# Altium footprint library ST7735_SPI_I2C.PcbLib: 1 footprints
Each footprint in its own frame and in the unit in brackets; x right, y up, seen from the top. Pads: shape width x height; smd on the part's side, far side on the other; paste and mask are expansions set on the pad; w line width, h text height; cw(c..) or ccw(c..) is an arc to the next point about the centre after c.
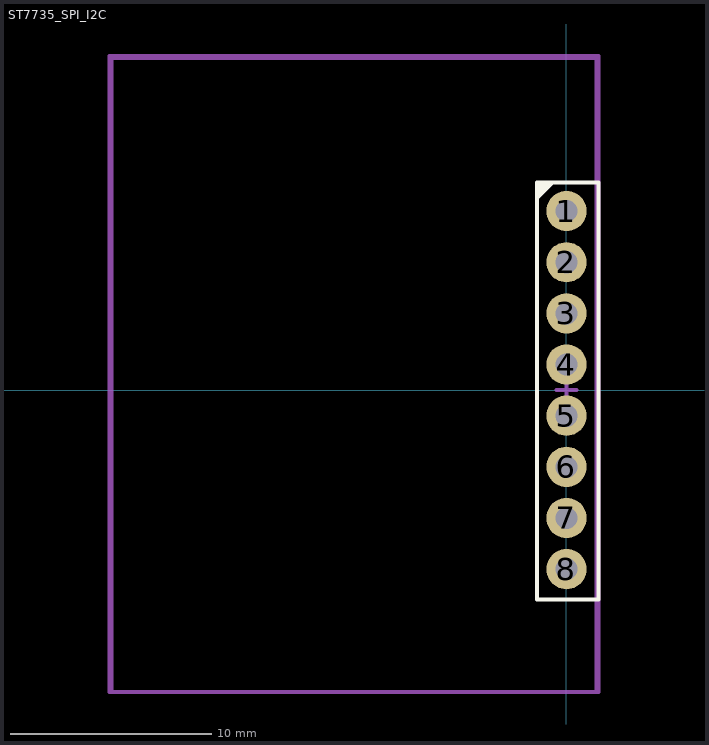
[diagram p0: the footprint, top view; thin cyan lines are the x and y axes]

## ST7735_SPI_I2C [mm]
height 5
pads (8):
  round 2 hole 1.1: 1(0,8.89) 2(0,6.35) 3(0,3.81) 4(0,1.27) 5(0,-1.27) 6(0,-3.81) 7(0,-6.35) 8(0,-8.89)
Top Overlay:
  region: -1.43,10.35 -1.43,9.45 -0.53,10.35
  lines w0.2: -1.47,-10.4 1.6,-10.4 1.6,10.32 -1.47,10.32 -1.47,-10.4
Top Component Center:
  lines w0.2: -0.5,0 0.5,0 ; 0,-0.5 0,0.5
Top Assembly:
  lines w0.2: -22.6,-15 1.5,-15 1.5,16.5 -22.6,16.5 -22.6,-15
Top Courtyard:
  lines w0.2: -22.7,-15 1.6,-15 1.6,16.6 -22.7,16.6 -22.7,-15
3D body "0.96 - IPS LCD - ST7735S - Alt.step": height 5.9, standoff -5.6, extent -22.665,-14.995 1.465,16.492